# Altium footprint library CON_430451010_MOL.PcbLib: 1 footprints
Each footprint in its own frame and in the unit in brackets; x right, y up, seen from the top. Pads: shape width x height; smd on the part's side, far side on the other; paste and mask are expansions set on the pad; w line width, h text height; cw(c..) or ccw(c..) is an arc to the next point about the centre after c.
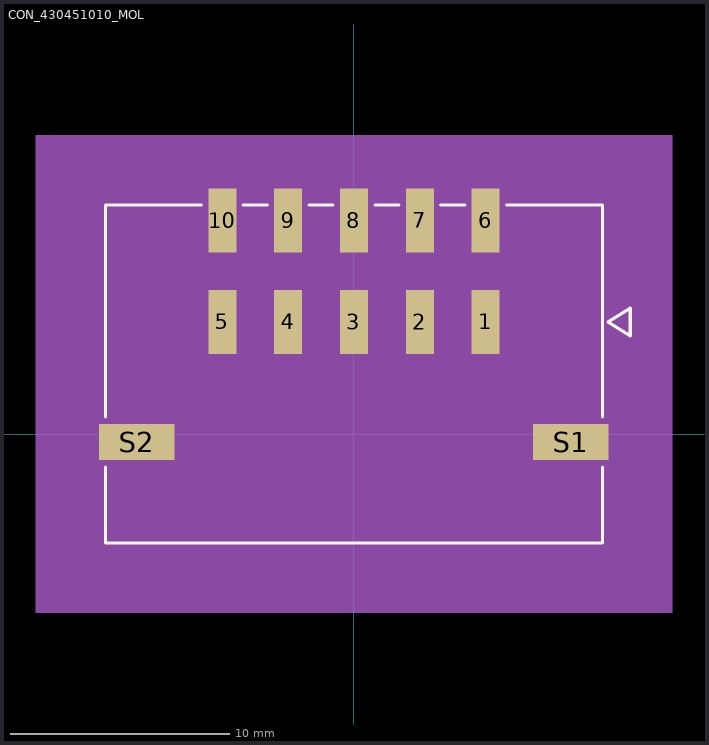
[diagram p0: the footprint, top view; thin cyan lines are the x and y axes]

## CON_430451010_MOL [mm]
pads (12):
  rect 1.27x2.92 smd paste+0 mask+0.076: 1(6,5.115) 2(3,5.115) 3(0,5.115) 4(-3,5.115) 5(-6,5.115) 6(6,9.745) 7(3,9.745) 8(0,9.745) 9(-3,9.745) 10(-6,9.745)
  rect 3.43x1.65 smd paste+0 mask+0.076: S1(9.875,-0.355) S2(-9.895,-0.355)
Top Overlay:
  lines w0.152: -11.325,-1.5 -11.325,-4.955 11.325,-4.955 11.325,-1.5 ; -11.325,0.79 -11.325,10.445 -6.955,10.445 ; -5.045,10.445 -3.955,10.445 ; -2.045,10.445 -0.955,10.445 ; 0.955,10.445 2.045,10.445 ; 3.955,10.445 5.045,10.445 ; 6.955,10.445 11.325,10.445 11.325,0.79 ; 11.579,5.115 12.595,4.48 12.595,5.75 11.579,5.115
Mechanical 5:
  region: -14.5,13.62 14.5,13.62 14.5,-8.13 -14.5,-8.13
Mechanical 13:
  lines w0.127: -11.325,-4.955 -11.325,10.445 11.325,10.445 11.325,-4.955 -11.325,-4.955 ; 11.579,5.115 12.595,4.48 12.595,5.75 11.579,5.115
Mechanical 15:
  region: 12.595,11.715 -12.595,11.715 -12.595,-6.225 12.595,-6.225
  lines w0.127: -12.595,-6.225 12.595,-6.225 12.595,11.715 -12.595,11.715 -12.595,-6.225
3D body: height 0.25, standoff 0, extent 0,0 0.254,0.254
3D body "430451010.stp": height 8.77, standoff 0, extent -11.325,-4.955 11.325,10.445